# Altium footprint library SnapEDApcb.PcbLib: 1 footprints
Each footprint in its own frame and in the unit in brackets; x right, y up, seen from the top. Pads: shape width x height; smd on the part's side, far side on the other; paste and mask are expansions set on the pad; w line width, h text height; cw(c..) or ccw(c..) is an arc to the next point about the centre after c.
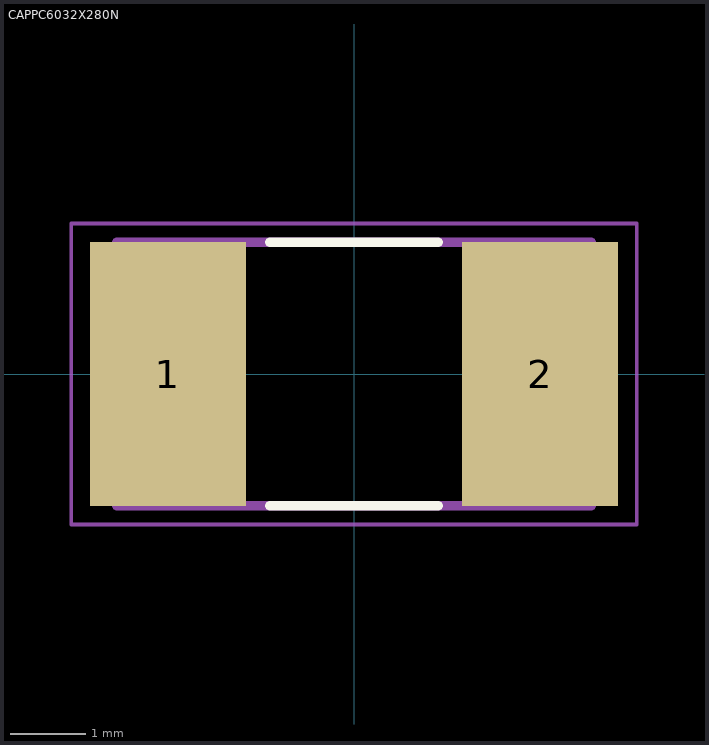
[diagram p0: the footprint, top view; thin cyan lines are the x and y axes]

## CAPPC6032X280N [mm]
pads (2):
  rect 2.07x3.51 smd: 1(-2.471,0) 2(2.471,0)
Top Overlay:
  lines w0.127: -1.12,-1.75 1.12,-1.75 ; -1.12,1.75 1.12,1.75
Mechanical 13:
  lines w0.127: -3.15,-1.75 3.15,-1.75 3.15,1.75 -3.15,1.75 -3.15,-1.75
Mechanical 15:
  lines w0.05: -3.755,-2 3.755,-2 3.755,2 -3.755,2 -3.755,-2